# Altium footprint library ControlCircuit_PCB_Library_V1_0.PcbLib: 207 footprints (part 12 of 13)
Each footprint in its own frame and in the unit in brackets; x right, y up, seen from the top. Pads: shape width x height; smd on the part's side, far side on the other; paste and mask are expansions set on the pad; w line width, h text height; cw(c..) or ccw(c..) is an arc to the next point about the centre after c.
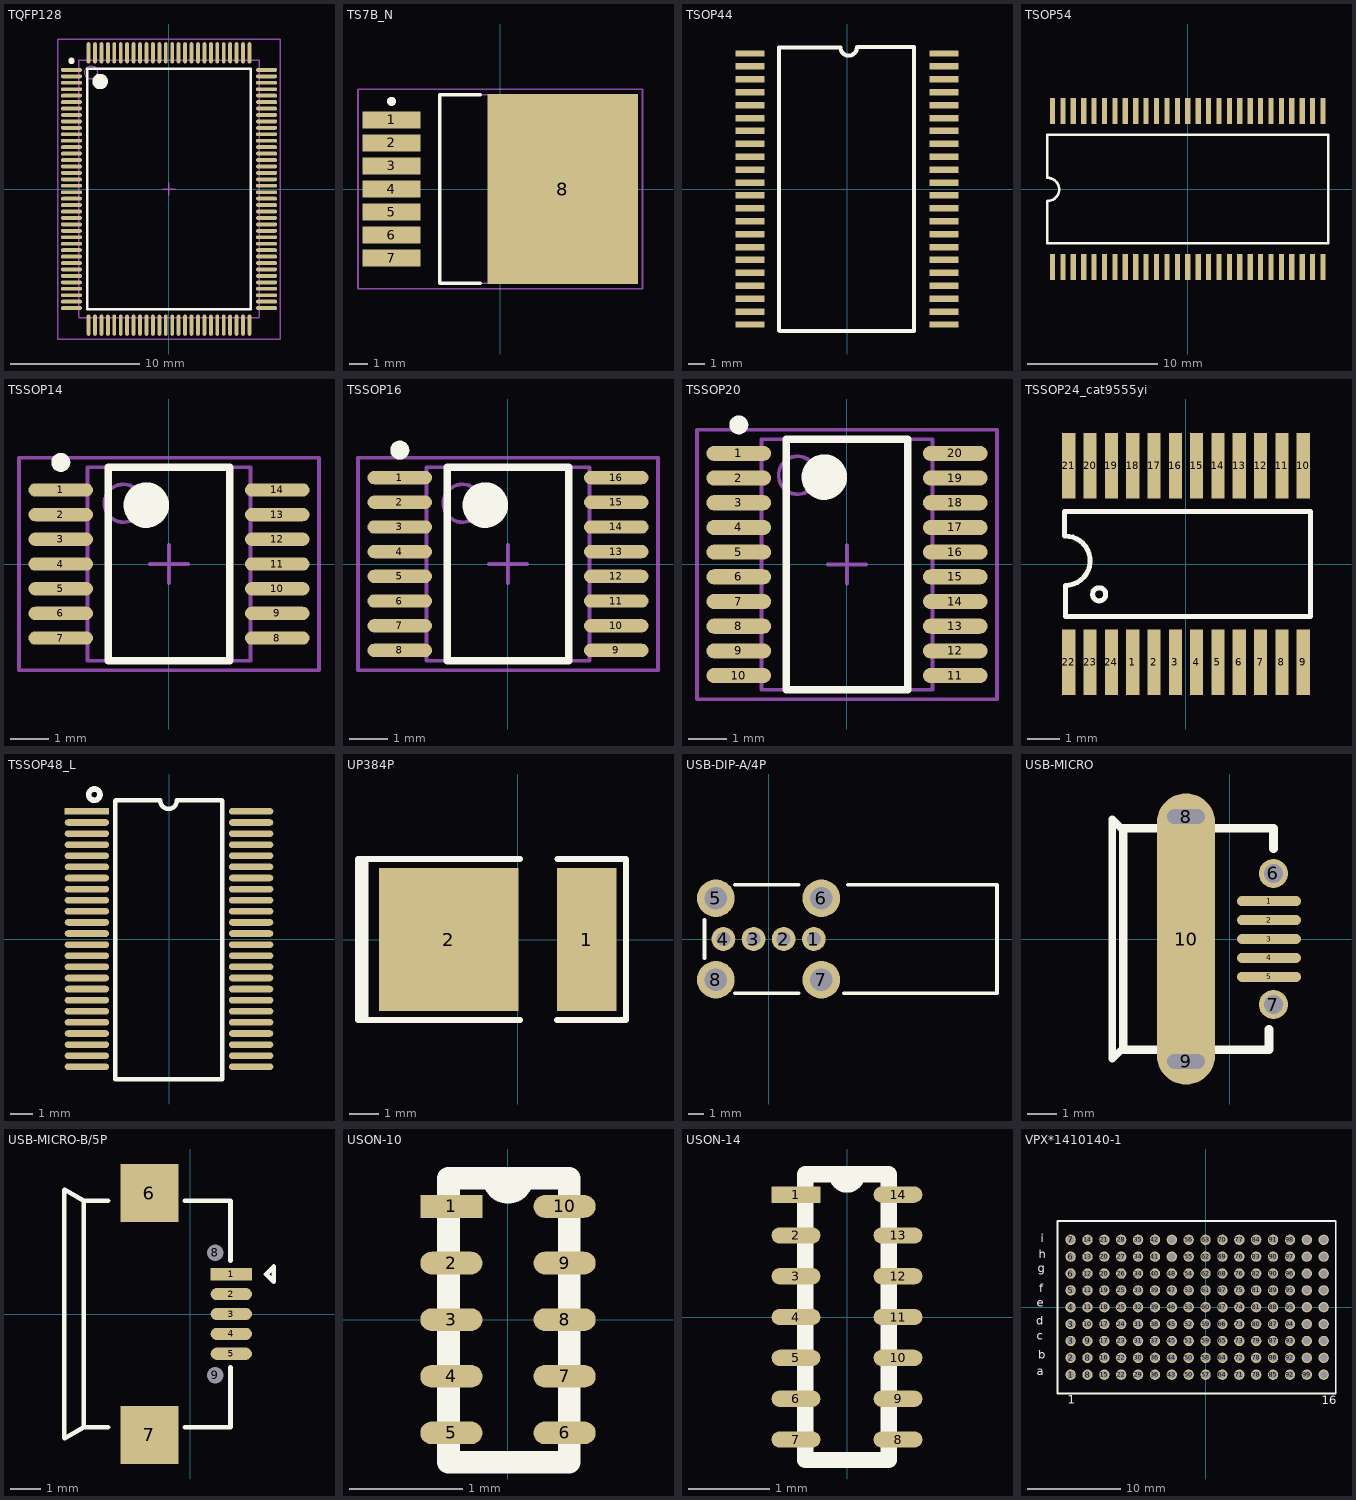
[diagram p11: the footprints below, top view; thin cyan lines are the x and y axes]

## TQFP128 [mm] "SQFP, 128-Leads, Body 22.0x16.0mm (max), Pitch 0.50mm, IPC Medium Density"
height 2.45
pads (128):
  oval 1.65x0.3 smd: 1(-7.575,9.25) 2(-7.575,8.75) 3(-7.575,8.25) 4(-7.575,7.75) 5(-7.575,7.25) 6(-7.575,6.75) 7(-7.575,6.25) 8(-7.575,5.75) 9(-7.575,5.25) 10(-7.575,4.75) 11(-7.575,4.25) 12(-7.575,3.75) 13(-7.575,3.25) 14(-7.575,2.75) 15(-7.575,2.25) 16(-7.575,1.75) 17(-7.575,1.25) 18(-7.575,0.75) 19(-7.575,0.25) 20(-7.575,-0.25) 21(-7.575,-0.75) 22(-7.575,-1.25) 23(-7.575,-1.75) 24(-7.575,-2.25) 25(-7.575,-2.75) 26(-7.575,-3.25) 27(-7.575,-3.75) 28(-7.575,-4.25) 29(-7.575,-4.75) 30(-7.575,-5.25) 31(-7.575,-5.75) 32(-7.575,-6.25) 33(-7.575,-6.75) 34(-7.575,-7.25) 35(-7.575,-7.75) 36(-7.575,-8.25) 37(-7.575,-8.75) 38(-7.575,-9.25) 65(7.575,-9.25) 66(7.575,-8.75) 67(7.575,-8.25) 68(7.575,-7.75) 69(7.575,-7.25) 70(7.575,-6.75) 71(7.575,-6.25) 72(7.575,-5.75) 73(7.575,-5.25) 74(7.575,-4.75) 75(7.575,-4.25) 76(7.575,-3.75) 77(7.575,-3.25) 78(7.575,-2.75) 79(7.575,-2.25) 80(7.575,-1.75) 81(7.575,-1.25) 82(7.575,-0.75) 83(7.575,-0.25) 84(7.575,0.25) 85(7.575,0.75) 86(7.575,1.25) 87(7.575,1.75) 88(7.575,2.25) 89(7.575,2.75) 90(7.575,3.25) 91(7.575,3.75) 92(7.575,4.25) 93(7.575,4.75) 94(7.575,5.25) 95(7.575,5.75) 96(7.575,6.25) 97(7.575,6.75) 98(7.575,7.25) 99(7.575,7.75) 100(7.575,8.25) 101(7.575,8.75) 102(7.575,9.25)
  oval 0.3x1.65 smd: 39(-6.25,-10.575) 40(-5.75,-10.575) 41(-5.25,-10.575) 42(-4.75,-10.575) 43(-4.25,-10.575) 44(-3.75,-10.575) 45(-3.25,-10.575) 46(-2.75,-10.575) 47(-2.25,-10.575) 48(-1.75,-10.575) 49(-1.25,-10.575) 50(-0.75,-10.575) 51(-0.25,-10.575) 52(0.25,-10.575) 53(0.75,-10.575) 54(1.25,-10.575) 55(1.75,-10.575) 56(2.25,-10.575) 57(2.75,-10.575) 58(3.25,-10.575) 59(3.75,-10.575) 60(4.25,-10.575) 61(4.75,-10.575) 62(5.25,-10.575) 63(5.75,-10.575) 64(6.25,-10.575) 103(6.25,10.575) 104(5.75,10.575) 105(5.25,10.575) 106(4.75,10.575) 107(4.25,10.575) 108(3.75,10.575) 109(3.25,10.575) 110(2.75,10.575) 111(2.25,10.575) 112(1.75,10.575) 113(1.25,10.575) 114(0.75,10.575) 115(0.25,10.575) 116(-0.25,10.575) 117(-0.75,10.575) 118(-1.25,10.575) 119(-1.75,10.575) 120(-2.25,10.575) 121(-2.75,10.575) 122(-3.25,10.575) 123(-3.75,10.575) 124(-4.25,10.575) 125(-4.75,10.575) 126(-5.25,10.575) 127(-5.75,10.575) 128(-6.25,10.575)
Top Overlay:
  circle w0.25: c-7.575,9.95 r0.125
  circle w0.6: c-5.35,8.35 r0.3
  lines w0.2: -6.35,-9.35 -6.35,9.35 6.35,9.35 6.35,-9.35 -6.35,-9.35
Mechanical 13:
  circle w0.1: c-6.05,9.05 r0.5
  lines w0.1: -7,-10 -7,10 7,10 7,-10 -7,-10
Mechanical 15:
  lines w0.1: -0.5,0 0.5,0 ; 0,-0.5 0,0.5 ; -8.65,-11.65 -8.65,11.65 8.65,11.65 8.65,-11.65 -8.65,-11.65
3D body: height 2.45, standoff 0.25, extent -7,-10 7,10

## TS7B_N [mm] "D2-PAK, 8-Leads, Body 8.6x10.2mm, Pitch 1.27mm, Lead Span 14.1mm, IPC Medium Density"
height 4.64
pads (8):
  rect 3.2x0.95 smd: 1(-6,3.81) 2(-6,2.54) 3(-6,1.27) 4(-6,0) 5(-6,-1.27) 6(-6,-2.54) 7(-6,-3.81)
  rect 8.3x10.5 smd: 8(3.45,0)
Top Overlay:
  circle w0.25: c-6,4.835 r0.125
  lines w0.2: -1.1,-5.2 -3.35,-5.2 -3.35,5.2 -1.1,5.2
Mechanical 5:
  lines w0.1: -3.35,-5.2 -3.35,5.2 6.05,5.2 6.05,-5.2 -3.35,-5.2
  text ".Designator" at -1.524,-0.508 h1.02
Mechanical 15:
  lines w0.1: -0.5,0 0.5,0 ; 0,-0.5 0,0.5 ; -7.85,-5.5 -7.85,5.5 7.85,5.5 7.85,-5.5 -7.85,-5.5
3D body: height 4.64, standoff 0, extent -3.35,-5.2 6.05,5.2

## TSOP44 [mm]
pads (44):
  rect 1.8x0.4 smd: 1(-6,8.4) 2(-6,7.6) 3(-6,6.8) 4(-6,6) 5(-6,5.2) 6(-6,4.4) 7(-6,3.6) 8(-6,2.8) 9(-6,2) 10(-6,1.2) 11(-6,0.4) 12(-6,-0.4) 13(-6,-1.2) 14(-6,-2) 15(-6,-2.8) 16(-6,-3.6) 17(-6,-4.4) 18(-6,-5.2) 19(-6,-6) 20(-6,-6.8) 21(-6,-7.6) 22(-6,-8.4) 23(6,-8.4) 24(6,-7.6) 25(6,-6.8) 26(6,-6) 27(6,-5.2) 28(6,-4.4) 29(6,-3.6) 30(6,-2.8) 31(6,-2) 32(6,-1.2) 33(6,-0.4) 34(6,0.4) 35(6,1.2) 36(6,2) 37(6,2.8) 38(6,3.6) 39(6,4.4) 40(6,5.2) 41(6,6) 42(6,6.8) 43(6,7.6) 44(6,8.4)
Top Overlay:
  lines w0.2: -4.165,-8.8 4.165,-8.8
  lines w0.254: -4.217,-8.771 -4.217,8.78 -0.403,8.78 ccw(c0.105,8.78) 0.613,8.78 ; -4.145,-8.78 -4.165,-8.8 4.165,-8.8 4.165,8.8 0.633,8.8

## TSOP54 [mm]
height 1.2
pads (54):
  rect 0.4x2 smd: 1(-10.4,-6) 2(-9.6,-6) 3(-8.8,-6) 4(-8,-6) 5(-7.2,-6) 6(-6.4,-6) 7(-5.6,-6) 8(-4.8,-6) 9(-4,-6) 10(-3.2,-6) 11(-2.4,-6) 12(-1.6,-6) 13(-0.8,-6) 14(0,-6) 15(0.8,-6) 16(1.6,-6) 17(2.4,-6) 18(3.2,-6) 19(4,-6) 20(4.8,-6) 21(5.6,-6) 22(6.4,-6) 23(7.2,-6) 24(8,-6) 25(8.8,-6) 26(9.6,-6) 27(10.4,-6) 28(10.4,6) 29(9.6,6) 30(8.8,6) 31(8,6) 32(7.2,6) 33(6.4,6) 34(5.6,6) 35(4.8,6) 36(4,6) 37(3.2,6) 38(2.4,6) 39(1.6,6) 40(0.8,6) 41(0,6) 42(-0.8,6) 43(-1.6,6) 44(-2.4,6) 45(-3.2,6) 46(-4,6) 47(-4.8,6) 48(-5.6,6) 49(-6.4,6) 50(-7.2,6) 51(-8,6) 52(-8.8,6) 53(-9.6,6) 54(-10.4,6)
Top Overlay:
  lines w0.2: -10.8,-0.939 -10.8,-4.165 10.8,-4.165 10.8,4.165 -10.8,4.165 -10.8,0.877 ; -10.781,-0.92 ccw(c-10.781,-0.031) -10.781,0.858

## TSSOP14 [mm] "SOP, 14-Leads, Body 5.1x4.3mm (max), Pitch 0.65mm, IPC Medium Density"
height 2.65
pads (14):
  oval 1.7x0.35 smd: 1(-2.85,1.95) 2(-2.85,1.3) 3(-2.85,0.65) 4(-2.85,0) 5(-2.85,-0.65) 6(-2.85,-1.3) 7(-2.85,-1.95) 8(2.85,-1.95) 9(2.85,-1.3) 10(2.85,-0.65) 11(2.85,0) 12(2.85,0.65) 13(2.85,1.3) 14(2.85,1.95)
Top Overlay:
  circle w0.6: c-0.6,1.55 r0.3
  circle w0.25: c-2.85,2.675 r0.125
  lines w0.2: -1.6,-2.55 1.6,-2.55 1.6,2.55 -1.6,2.55 -1.6,-2.55
Mechanical 13:
  circle w0.1: c-1.2,1.6 r0.5
  lines w0.1: -2.15,-2.55 2.15,-2.55 2.15,2.55 -2.15,2.55 -2.15,-2.55
Mechanical 15:
  lines w0.1: -0.5,0 0.5,0 ; 0,-0.5 0,0.5 ; -3.95,-2.8 3.95,-2.8 3.95,2.8 -3.95,2.8 -3.95,-2.8
3D body: height 2.65, standoff 0.1, extent -2.15,-2.55 2.15,2.55

## TSSOP16 [mm] "SOP, 16-Leads, Body 5.1x4.3mm (max), Pitch 0.65mm, IPC Medium Density"
height 2.65
pads (16):
  oval 1.7x0.35 smd: 1(-2.85,2.275) 2(-2.85,1.625) 3(-2.85,0.975) 4(-2.85,0.325) 5(-2.85,-0.325) 6(-2.85,-0.975) 7(-2.85,-1.625) 8(-2.85,-2.275) 9(2.85,-2.275) 10(2.85,-1.625) 11(2.85,-0.975) 12(2.85,-0.325) 13(2.85,0.325) 14(2.85,0.975) 15(2.85,1.625) 16(2.85,2.275)
Top Overlay:
  circle w0.25: c-2.85,3 r0.125
  circle w0.6: c-0.6,1.55 r0.3
  lines w0.2: -1.6,-2.55 -1.6,2.55 1.6,2.55 1.6,-2.55 -1.6,-2.55
Mechanical 13:
  circle w0.1: c-1.2,1.6 r0.5
  lines w0.1: -2.15,-2.55 -2.15,2.55 2.15,2.55 2.15,-2.55 -2.15,-2.55
Mechanical 15:
  lines w0.1: -0.5,0 0.5,0 ; 0,-0.5 0,0.5 ; -3.95,-2.8 -3.95,2.8 3.95,2.8 3.95,-2.8 -3.95,-2.8
3D body: height 2.65, standoff 0.1, extent -2.15,-2.55 2.15,2.55

## TSSOP20 [mm] "TSOP, 20-Leads, Body 6.6x4.5mm (max), Pitch 0.65mm, IPC Medium Density"
height 1.1
pads (20):
  oval 1.7x0.4 smd: 1(-2.85,2.925) 2(-2.85,2.275) 3(-2.85,1.625) 4(-2.85,0.975) 5(-2.85,0.325) 6(-2.85,-0.325) 7(-2.85,-0.975) 8(-2.85,-1.625) 9(-2.85,-2.275) 10(-2.85,-2.925) 11(2.85,-2.925) 12(2.85,-2.275) 13(2.85,-1.625) 14(2.85,-0.975) 15(2.85,-0.325) 16(2.85,0.325) 17(2.85,0.975) 18(2.85,1.625) 19(2.85,2.275) 20(2.85,2.925)
Top Overlay:
  circle w0.6: c-0.6,2.3 r0.3
  circle w0.25: c-2.85,3.675 r0.125
  lines w0.2: -1.6,-3.3 1.6,-3.3 1.6,3.3 -1.6,3.3 -1.6,-3.3
Mechanical 13:
  circle w0.1: c-1.3,2.35 r0.5
  lines w0.1: -2.25,-3.3 2.25,-3.3 2.25,3.3 -2.25,3.3 -2.25,-3.3
Mechanical 15:
  lines w0.1: -0.5,0 0.5,0 ; 0,-0.5 0,0.5 ; -3.95,-3.55 3.95,-3.55 3.95,3.55 -3.95,3.55 -3.95,-3.55
3D body: height 1.1, standoff 0.1, extent -2.25,-3.3 2.25,3.3

## TSSOP24_cat9555yi [mm]
pads (24):
  rect 0.4x2 smd: 1(-1.625,-3) 2(-0.975,-3) 3(-0.325,-3) 4(0.325,-3) 5(0.975,-3) 6(1.625,-3) 7(2.275,-3) 8(2.925,-3) 9(3.575,-3) 10(3.575,3) 11(2.925,3) 12(2.275,3) 13(1.625,3) 14(0.975,3) 15(0.325,3) 16(-0.325,3) 17(-0.975,3) 18(-1.625,3) 19(-2.275,3) 20(-2.925,3) 21(-3.575,3) 22(-3.575,-3) 23(-2.925,-3) 24(-2.275,-3)
Top Overlay:
  circle w0.152: c-2.65,-0.925 r0.2
  lines w0.152: -3.7,0.85 cw(c-3.675,0.1) -3.675,-0.65 -3.675,-1.6 3.8,-1.6 3.8,1.6 -3.7,1.6 -3.7,0.85

## TSSOP48_L [mm]
height 1.2
pads (48):
  rect 2x0.3 smd: 1(-3.696,5.75)
  oval 2x0.3 smd: 2(-3.696,5.25) 3(-3.696,4.75) 4(-3.696,4.25) 5(-3.696,3.75) 6(-3.696,3.25) 7(-3.696,2.75) 8(-3.696,2.25) 9(-3.696,1.75) 10(-3.696,1.25) 11(-3.696,0.75) 12(-3.696,0.25) 13(-3.696,-0.25) 14(-3.696,-0.75) 15(-3.696,-1.25) 16(-3.696,-1.75) 17(-3.696,-2.25) 18(-3.696,-2.75) 19(-3.696,-3.25) 20(-3.696,-3.75) 21(-3.696,-4.25) 22(-3.696,-4.75) 23(-3.696,-5.25) 24(-3.696,-5.75) 25(3.696,-5.75) 26(3.696,-5.25) 27(3.696,-4.75) 28(3.696,-4.25) 29(3.696,-3.75) 30(3.696,-3.25) 31(3.696,-2.75) 32(3.696,-2.25) 33(3.696,-1.75) 34(3.696,-1.25) 35(3.696,-0.75) 36(3.696,-0.25) 37(3.696,0.25) 38(3.696,0.75) 39(3.696,1.25) 40(3.696,1.75) 41(3.696,2.25) 42(3.696,2.75) 43(3.696,3.25) 44(3.696,3.75) 45(3.696,4.25) 46(3.696,4.75) 47(3.696,5.25) 48(3.696,5.75)
Top Overlay:
  circle w0.254: c-3.362,6.504 r0.254
  lines w0.2: -2.426,6.233 -2.426,-6.317 2.4,-6.317 2.4,6.233 ; -2.4,6.244 -0.397,6.244 ccw(c-0.019,6.244) 0.358,6.244 2.375,6.244

## UP384P [mm]
pads (2):
  rect 2x4.8 smd: 1(2.319,0)
  rect 4.7x4.8 smd: 2(-2.319,0)
Top Overlay:
  rectangle: -5.366,-2.666 -5.011,2.734
  lines w0.2: 0.073,-2.7 -5.367,-2.7 -5.367,2.7 0.073,2.7 ; 1.319,-2.7 3.65,-2.7 3.65,2.7 1.343,2.7

## USB-DIP-A/4P [mm]
pads (8):
  round 1.575 hole 0.92: 1(3,0) 2(1,0) 3(-1,0) 4(-3,0)
  round 2.5 hole 1.5: 5(-3.5,2.7) 6(3.5,2.7) 7(3.5,-2.7) 8(-3.5,-2.7)
Top Overlay:
  lines w0.254: -4.25,-1.25 -4.25,1.25 ; -2.25,-3.6 2,-3.6 ; -2.25,3.6 2,3.6 ; 5,-3.6 15.15,-3.6 15.15,3.6 5.25,3.6

## USB-MICRO [mm]
pads (10):
  oval 2.2x0.35 smd: 1(1.35,1.3) 2(1.35,0.65) 3(1.35,0) 4(1.35,-0.65) 5(1.35,-1.3)
  round 1 hole 0.65: 6(1.5,2.25) 7(1.5,-2.25)
  oval 1.9x1.1 hole 0.5 slot 1.3 at 0 deg: 8(-1.5,4.2) 9(-1.5,-4.2)
  oval 2x10 smd: 10(-1.5,0)
Top Overlay:
  lines w0.254: -3.65,-3.8 -3.716,-3.8 -4.031,-4.115 -4.031,4.115 -3.701,3.785 -3.65,3.785 -3.65,3.8
  lines w0.3: 1.35,-3.099 1.35,-3.8 -3.65,-3.8 -3.65,3.8 1.506,3.8 1.506,3.099

## USB-MICRO-B/5P [mm]
pads (9):
  rect 1.35x0.4 smd: 1(1.338,1.3)
  oval 1.35x0.4 smd: 2(1.338,0.65) 3(1.338,0) 4(1.338,-0.65) 5(1.338,-1.3)
  rect 1.9x1.9 smd: 6(-1.337,3.95) 7(-1.337,-3.95)
  round 0.5 hole 0.55 unplated: 8(0.813,2) 9(0.813,-2)
Top Overlay:
  lines w0.152: -4.117,-4.05 -4.117,4.05 ; -4.087,-4.05 -3.487,-3.7 ; -4.087,4.05 -3.487,3.7 ; -2.687,-3.7 -3.487,-3.7 ; -2.687,3.7 -3.487,3.7 ; -0.187,-3.7 1.313,-3.7 1.313,-1.75 ; -0.187,3.7 1.313,3.7 1.313,1.75 ; -3.487,-3.7 -3.487,3.7 ; 2.473,1.3 2.723,1.55 2.723,1.05 2.473,1.3

## USON-10 [mm]
pads (10):
  rect 0.55x0.2 smd: 1(-0.5,1)
  oval 0.55x0.2 smd: 2(-0.5,0.5) 3(-0.5,0) 4(-0.5,-0.5) 5(-0.5,-1) 6(0.5,-1) 7(0.5,-0.5) 8(0.5,0) 9(0.5,0.5) 10(0.5,1)
Top Overlay:
  lines w0.2: -0.525,-1.261 0.541,-1.261 0.541,1.25 -0.125,1.25 ccw(c0,1.25) 0.125,1.25 -0.525,1.25 -0.525,-1.261

## USON-14 [mm]
pads (14):
  rect 0.6x0.2 smd: 1(-0.625,1.5)
  oval 0.6x0.2 smd: 2(-0.625,1) 3(-0.625,0.5) 4(-0.625,0) 5(-0.625,-0.5) 6(-0.625,-1) 7(-0.625,-1.5) 8(0.625,-1.5) 9(0.625,-1) 10(0.625,-0.5) 11(0.625,0) 12(0.625,0.5) 13(0.625,1) 14(0.625,1.5)
Top Overlay:
  lines w0.2: -0.51,-1.75 -0.51,1.75 0.125,1.75 cw(c0,1.75) -0.125,1.75 0.51,1.75 0.51,-1.75 -0.51,-1.75

## VPX*1410140-1 [mm]
pads (144):
  round 1.1 hole 0.8: 1(-14.4,-7.2) 2(-14.4,-5.4) 3(-14.4,-3.6) 3(-14.4,-1.8) 4(-14.4,0) 5(-14.4,1.8) 6(-14.4,3.6) 6(-14.4,5.4) 7(-14.4,7.2) 8(-12.6,-7.2) 8(-12.6,-5.4) 9(-12.6,-3.6) 10(-12.6,-1.8) 11(-12.6,0) 11(-12.6,1.8) 12(-12.6,3.6) 13(-12.6,5.4) 14(-12.6,7.2) 15(-10.8,-7.2) 16(-10.8,-5.4) 17(-10.8,-3.6) 17(-10.8,-1.8) 18(-10.8,0) 19(-10.8,1.8) 20(-10.8,3.6) 20(-10.8,5.4) 21(-10.8,7.2) 22(-9,-7.2) 22(-9,-5.4) 23(-9,-3.6) 24(-9,-1.8) 25(-9,0) 25(-9,1.8) 26(-9,3.6) 27(-9,5.4) 28(-9,7.2) 29(-7.2,-7.2) 30(-7.2,-5.4) 31(-7.2,-3.6) 31(-7.2,-1.8) 32(-7.2,0) 33(-7.2,1.8) 34(-7.2,3.6) 34(-7.2,5.4) 35(-7.2,7.2) 36(-5.4,-7.2) 36(-5.4,-5.4) 37(-5.4,-3.6) 38(-5.4,-1.8) 39(-5.4,0) 39(-5.4,1.8) 40(-5.4,3.6) 41(-5.4,5.4) 42(-5.4,7.2) 43(-3.6,-7.2) 44(-3.6,-5.4) 45(-3.6,-3.6) 45(-3.6,-1.8) 46(-3.6,0) 47(-3.6,1.8) 48(-3.6,3.6) 50(-1.8,-7.2) 50(-1.8,-5.4) 51(-1.8,-3.6) 52(-1.8,-1.8) 53(-1.8,0) 53(-1.8,1.8) 54(-1.8,3.6) 55(-1.8,5.4) 56(-1.8,7.2) 57(0,-7.2) 58(0,-5.4) 59(0,-3.6) 59(0,-1.8) 60(0,0) 61(0,1.8) 62(0,3.6) 62(0,5.4) 63(0,7.2) 64(1.8,-7.2) 64(1.8,-5.4) 65(1.8,-3.6) 66(1.8,-1.8) 67(1.8,0) 67(1.8,1.8) 68(1.8,3.6) 69(1.8,5.4) 70(1.8,7.2) 71(3.6,-7.2) 72(3.6,-5.4) 73(3.6,-3.6) 73(3.6,-1.8) 74(3.6,0) 75(3.6,1.8) 76(3.6,3.6) 76(3.6,5.4) 77(3.6,7.2) 78(5.4,-7.2) 78(5.4,-5.4) 79(5.4,-3.6) 80(5.4,-1.8) 81(5.4,0) 81(5.4,1.8) 82(5.4,3.6) 83(5.4,5.4) 84(5.4,7.2) 85(7.2,-7.2) 86(7.2,-5.4) 87(7.2,-3.6) 87(7.2,-1.8) 88(7.2,0) 89(7.2,1.8) 90(7.2,3.6) 90(7.2,5.4) 91(7.2,7.2) 92(9,-7.2) 92(9,-5.4) 93(9,-3.6) 94(9,-1.8) 95(9,0) 95(9,1.8) 96(9,3.6) 97(9,5.4) 98(9,7.2) 99(10.8,-7.2) 100(10.8,-5.4) 101(10.8,-3.6) 101(10.8,-1.8) 102(10.8,0) 103(10.8,1.8) 104(10.8,3.6) 104(10.8,5.4) 105(10.8,7.2) 106(12.6,-7.2) 106(12.6,-5.4) 107(12.6,-3.6) 108(12.6,-1.8) 109(12.6,0) 109(12.6,1.8) 110(12.6,3.6) 111(12.6,5.4) 112(12.6,7.2) 119(-3.6,7.2) 135(-3.6,5.4)
Top Overlay:
  lines w0.2: -15.812,-9.208 13.875,-9.208 ; -15.802,-9.208 -15.802,9.208 ; -15.695,-9.223 13.895,-9.223 13.895,9.208 -15.802,9.208 ; 13.885,9.208 -15.802,9.208
  text "i" at -17.613,6.673 h1.52
  text "h" at -17.781,4.883 h1.52
  text "a" at -17.999,-7.584 h1.52
  text "b" at -17.855,-5.793 h1.52
  text "c" at -18.025,-3.807 h1.52
  text "d" at -18.096,-2.209 h1.52
  text "e" at -17.999,-0.248 h1.52
  text "f" at -17.733,1.276 h1.52
  text "g" at -17.903,3.405 h1.52
  text "1" at -14.685,-10.626 h1.52
  text "16" at 12.394,-10.652 h1.52